# Altium footprint library eSurf_handle.PcbLib: 57 footprints (part 3 of 4)
Each footprint in its own frame and in the unit in brackets; x right, y up, seen from the top. Pads: shape width x height; smd on the part's side, far side on the other; paste and mask are expansions set on the pad; w line width, h text height; cw(c..) or ccw(c..) is an arc to the next point about the centre after c.
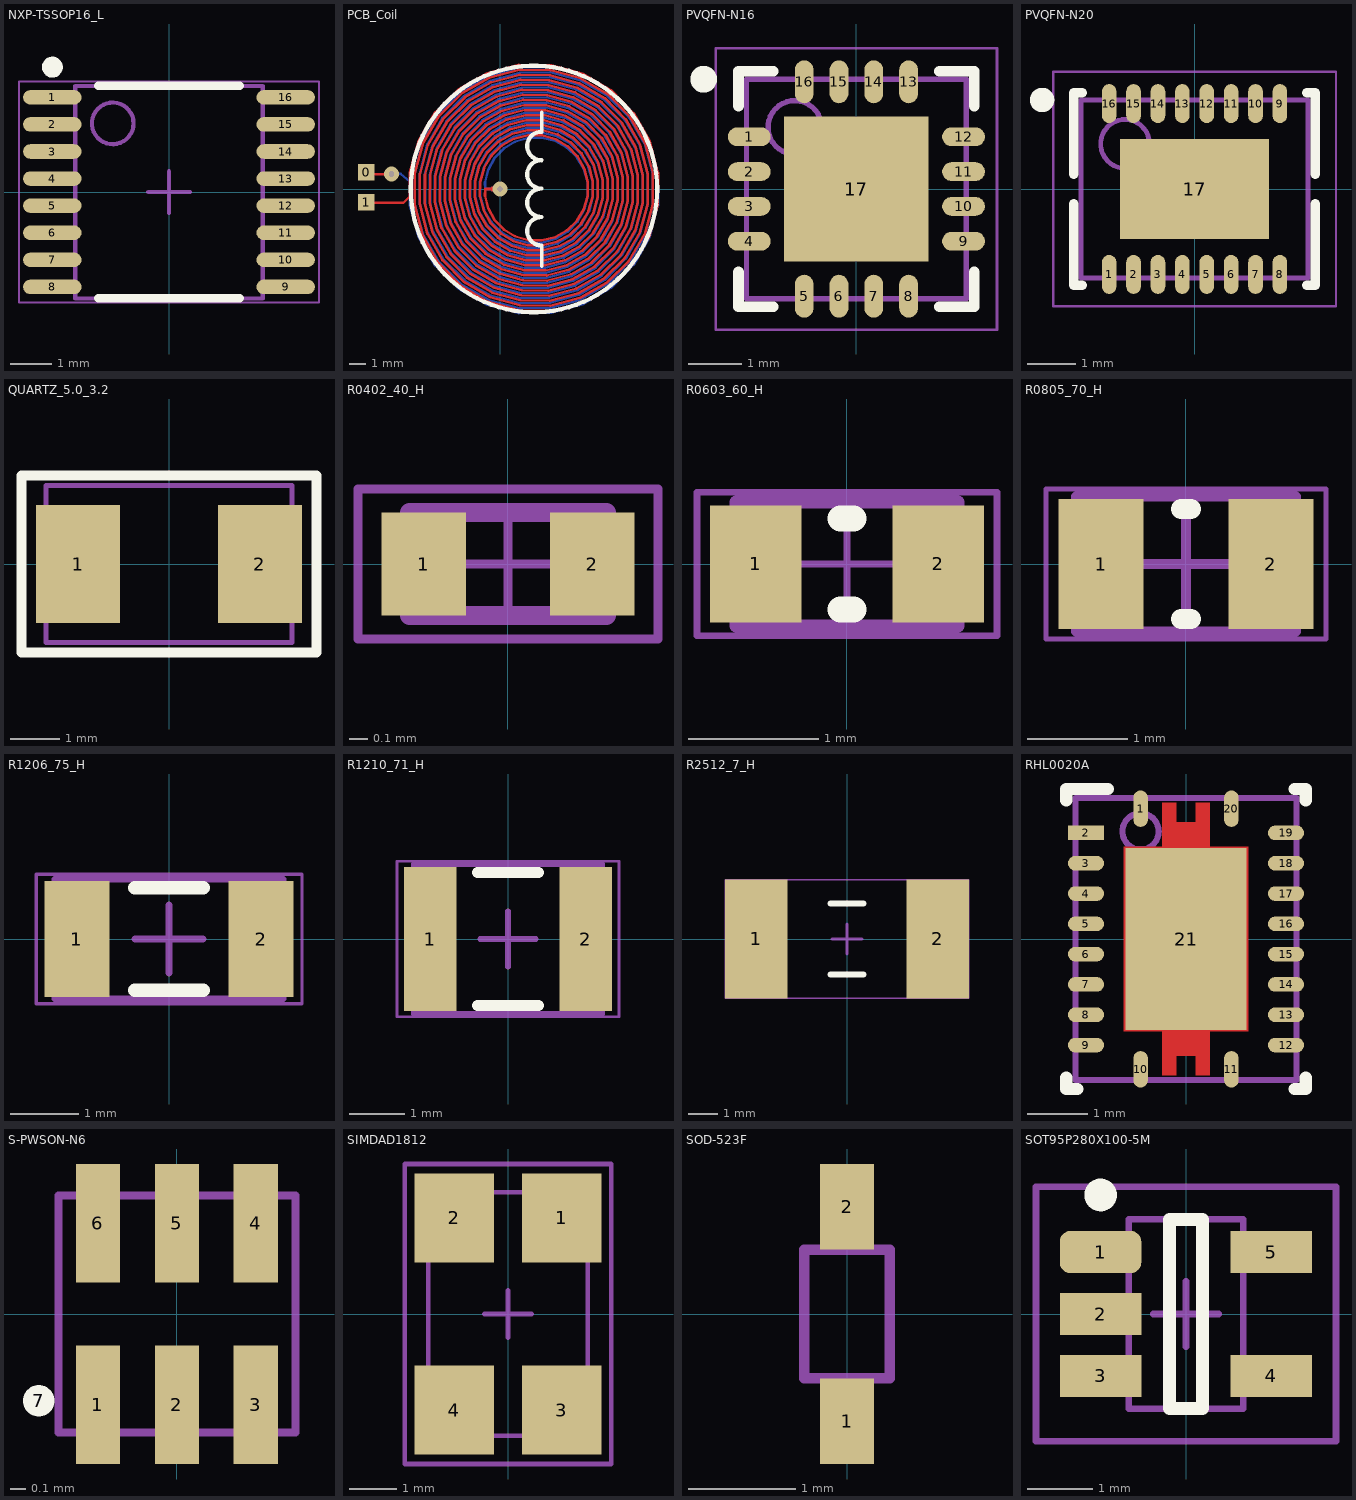
[diagram p2: the footprints below, top view; thin cyan lines are the x and y axes]

## NXP-TSSOP16_L [mm] "TSSOP, 16-Leads, Body 5.1x4.5mm, Pitch 0.65mm, Thermal Pad 2.997x2.997mm, IPC High Density"
height 1.2
pads (16):
  oval 1.4x0.35 smd: 1(-2.8,2.275) 2(-2.8,1.625) 3(-2.8,0.975) 4(-2.8,0.325) 5(-2.8,-0.325) 6(-2.8,-0.975) 7(-2.8,-1.625) 8(-2.8,-2.275) 9(2.8,-2.275) 10(2.8,-1.625) 11(2.8,-0.975) 12(2.8,-0.325) 13(2.8,0.325) 14(2.8,0.975) 15(2.8,1.625) 16(2.8,2.275)
Top Overlay:
  circle w0.25: c-2.8,3 r0.125
  lines w0.2: -1.7,-2.55 1.7,-2.55 ; -1.7,2.55 1.7,2.55
Mechanical 13:
  circle w0.1: c-1.35,1.65 r0.5
  lines w0.1: -2.25,-2.55 -2.25,2.55 2.25,2.55 2.25,-2.55 -2.25,-2.55
Mechanical 15:
  lines w0.05: -3.6,-2.65 -3.6,2.65 3.6,2.65 3.6,-2.65 -3.6,-2.65
  lines w0.1: -0.5,0 0.5,0 ; 0,-0.5 0,0.5
3D body: height 1.2, standoff 0, extent -2.2,-2.5 2.2,2.5

## PCB_Coil [mm]
pads (2):
  rect 1x1 smd mask+0.05: 0(-8,1) 1(-8,-0.8)
via -0.009,0.005 diameter 0.889 hole 0.305
via -6.486,0.894 diameter 0.889 hole 0.3
Top Layer:
  lines w0.15: -8,1 -7.894,0.894 -6.486,0.894 -6.591,1 ; -7.975,-0.825 -6.544,-0.825 -5.779,-0.825 -5.404,-0.45 -5.404,0 -5.392,0.986 -4.869,2.886 -3.875,4.584 -2.477,5.964 -0.773,6.933 1.121,7.428 3.075,7.415 4.956,6.898 6.636,5.914 8.002,4.53 8.962,2.843 9.451,0.968 9.439,-0.966 8.927,-2.828 7.952,-4.492 6.583,-5.844 4.913,-6.793 3.057,-7.278 1.142,-7.265 -0.701,-6.758 -2.347,-5.793 -3.685,-4.438 -4.625,-2.785 -5.104,-0.948 -5.091,0.947 -4.59,2.77 -3.635,4.399 -2.293,5.723 -0.657,6.653 1.16,7.127 3.035,7.115 4.84,6.618 6.452,5.673 7.762,4.346 8.682,2.727 9.151,0.928 9.139,-0.927 8.647,-2.712 7.712,-4.307 6.398,-5.603 4.797,-6.514 3.017,-6.977 1.182,-6.965 -0.585,-6.479 -2.162,-5.553 -3.445,-4.253 -4.345,-2.669 -4.804,-0.909 -4.791,0.907 -4.31,2.655 -3.395,4.215 -2.109,5.483 -0.541,6.374 1.2,6.827 2.996,6.815 4.724,6.339 6.268,5.433 7.522,4.161 8.402,2.611 8.851,0.889 8.838,-0.887 8.367,-2.597 7.472,-4.123 6.214,-5.363 4.681,-6.234 2.978,-6.677 1.221,-6.665 -0.469,-6.199 -1.978,-5.313 -3.204,-4.069 -4.065,-2.553 -4.503,-0.869 -4.491,0.868 -4.03,2.539 -3.154,4.031 -1.924,5.243 -0.426,6.094 1.239,6.527 2.956,6.515 4.608,6.059 6.083,5.193 7.282,3.977 8.123,2.495 8.551,0.849 8.538,-0.848 8.088,-2.481 7.232,-3.939 6.03,-5.123 4.565,-5.954 2.938,-6.377 1.261,-6.364 -0.353,-5.919 -1.794,-5.073 -2.964,-3.885 -3.785,-2.437 -4.203,-0.83 -4.191,0.828 -3.75,2.423 -2.914,3.846 -1.74,5.003 -0.31,5.814 1.279,6.227 2.917,6.214 4.492,5.779 5.899,4.953 7.041,3.793 7.843,2.379 8.25,0.81 8.238,-0.808 7.808,-2.365 6.991,-3.754 5.845,-4.883 4.449,-5.674 2.899,-6.077 1.3,-6.064 -0.237,-5.639 -1.609,-4.833 -2.724,-3.7 -3.506,-2.321 -3.903,-0.79 -3.89,0.788 -3.471,2.307 -2.674,3.662 -1.556,4.762 -0.194,5.534 1.318,5.927 2.877,5.914 4.377,5.499 5.715,4.712 6.801,3.608 7.563,2.263 7.95,0.77 7.938,-0.769 7.528,-2.249 6.751,-3.57 5.661,-4.642 4.333,-5.394 2.859,-5.776 1.34,-5.764 -0.121,-5.359 -1.425,-4.592 -2.484,-3.516 -3.226,-2.205 -3.603,-0.751 -3.59,0.749 -3.191,2.191 -2.434,3.478 -1.371,4.522 -0.078,5.255 1.358,5.626 2.838,5.614 4.261,5.22 5.53,4.472 6.561,3.424 7.283,2.148 7.65,0.731 7.637,-0.729 7.248,-2.133 6.511,-3.386 5.477,-4.402 4.217,-5.115 2.82,-5.476 1.379,-5.464 -0.005,-5.08 -1.241,-4.352 -2.243,-3.332 -2.946,-2.09 -3.303,-0.711 -3.29,0.709 -2.911,2.075 -2.193,3.293 -1.187,4.282 0.038,4.975 1.397,5.326 2.798,5.314 4.145,4.94 5.346,4.232 6.321,3.24 7.004,2.032 7.35,0.691 7.337,-0.69 6.969,-2.017 6.271,-3.201 5.292,-4.162 4.101,-4.835 2.78,-5.176 1.419,-5.163 0.11,-4.8 -1.056,-4.112 -2.003,-3.147 -2.666,-1.974 -3.002,-0.672 -2.99,0.67 -2.631,1.959 -1.953,3.109 -1.003,4.042 0.154,4.695 1.437,5.026 2.759,5.013 4.029,4.66 5.162,3.992 6.08,3.055 6.724,1.916 7.05,0.652 7.037,-0.65 6.689,-1.901 6.03,-3.017 5.108,-3.922 3.985,-4.555 2.741,-4.876 1.458,-4.863 0.226,-4.52 -0.872,-3.872 -1.763,-2.963 -2.387,-1.858 -2.702,-0.632 -2.69,0.63 -2.352,1.843 -1.713,2.925 -0.818,3.801 0.27,4.415 1.477,4.726 2.719,4.713 3.913,4.38 4.977,3.751 5.84,2.871 6.444,1.8 6.749,0.612 6.737,-0.611 6.409,-1.785 5.79,-2.832 4.923,-3.681 3.87,-4.275 2.701,-4.576 1.498,-4.563 0.342,-4.24 -0.688,-3.631 -1.523,-2.779 -2.107,-1.742 -2.402,-0.593 -2.389,0.591 -2.072,1.727 -1.473,2.74 -0.634,3.561 0.386,4.136 1.516,4.425 2.68,4.413 3.797,4.101 4.793,3.511 5.6,2.687 6.164,1.684 6.449,0.573 6.437,-0.571 6.129,-1.67 5.55,-2.648 4.739,-3.441 3.754,-3.996 2.662,-4.275 1.537,-4.263 0.458,-3.961 -0.503,-3.391 -1.282,-2.594 -1.827,-1.626 -2.102,-0.553 -2.089,0.551 -1.792,1.612 -1.232,2.556 -0.45,3.321 0.502,3.856 1.556,4.125 2.64,4.113 3.681,3.821 4.609,3.271 5.36,2.502 5.884,1.568 6.149,0.533 6.136,-0.532 5.849,-1.554 5.31,-2.464 4.555,-3.201 3.638,-3.716 2.622,-3.975 1.577,-3.963 0.574,-3.681 -0.319,-3.151 -1.042,-2.41 -1.547,-1.51 -1.801,-0.513 -1.789,0.512 -1.512,1.496 -0.992,2.372 -0.265,3.081 0.617,3.576 1.595,3.825 2.601,3.812 3.565,3.541 4.424,3.031 5.119,2.318 5.605,1.452 5.849,0.494 5.836,-0.492 5.57,-1.438 5.069,-2.279 4.37,-2.961 3.522,-3.436 2.582,-3.675 1.617,-3.662 0.69,-3.401 -0.135,-2.911 -0.802,-2.226 -1.267,-1.394 -1.501,-0.474 -1.489,0.472 -1.233,1.38 -0.752,2.187 -0.081,2.841 0.733,3.296 1.635,3.525 2.561,3.512 3.45,3.261 4.24,2.79 4.879,2.134 5.325,1.336 5.548,0.454 5.536,-0.453 5.29,-1.322 4.829,-2.095 4.186,-2.72 3.406,-3.156 2.543,-3.375 1.656,-3.362 0.806,-3.121 0.05,-2.67 -0.562,-2.041 -0.988,-1.278 -1.201,-0.434 -1.188,0.433 -0.953,1.264 -0.512,2.003 0.103,2.6 0.849,3.016 1.674,3.225 2.522,3.212 3.334,2.981 4.056,2.55 4.639,1.949 5.045,1.22 5.248,0.415 5.236,-0.413 5.01,-1.206 4.589,-1.911 4.002,-2.48 3.29,-2.877 2.503,-3.074 1.696,-3.062 0.922,-2.842 0.234,-2.43 -0.321,-1.857 -0.708,-1.163 -0.901,-0.395 -0.888,0 -0.444,0
  lines w0.3: -0.444,0 0,0
Bottom Layer:
  lines w0.15: -6.37,0.901 -5.945,0.901 -5.404,0.45 -5.404,0 -5.392,-0.986 -4.869,-2.886 -3.875,-4.584 -2.477,-5.964 -0.773,-6.933 1.121,-7.428 3.075,-7.415 4.956,-6.898 6.636,-5.914 8.002,-4.53 8.962,-2.843 9.451,-0.968 9.439,0.966 8.927,2.828 7.952,4.492 6.583,5.844 4.913,6.793 3.057,7.278 1.142,7.265 -0.701,6.758 -2.347,5.793 -3.685,4.438 -4.625,2.785 -5.104,0.948 -5.091,-0.947 -4.59,-2.77 -3.635,-4.399 -2.293,-5.723 -0.657,-6.653 1.16,-7.127 3.035,-7.115 4.84,-6.618 6.452,-5.673 7.762,-4.346 8.682,-2.727 9.151,-0.928 9.139,0.927 8.647,2.712 7.712,4.307 6.398,5.603 4.797,6.514 3.017,6.977 1.182,6.965 -0.585,6.479 -2.162,5.553 -3.445,4.253 -4.345,2.669 -4.804,0.909 -4.791,-0.907 -4.31,-2.655 -3.395,-4.215 -2.109,-5.483 -0.541,-6.374 1.2,-6.827 2.996,-6.815 4.724,-6.339 6.268,-5.433 7.522,-4.161 8.402,-2.611 8.851,-0.889 8.838,0.887 8.367,2.597 7.472,4.123 6.214,5.363 4.681,6.234 2.978,6.677 1.221,6.665 -0.469,6.199 -1.978,5.313 -3.204,4.069 -4.065,2.553 -4.503,0.869 -4.491,-0.868 -4.03,-2.539 -3.154,-4.031 -1.924,-5.243 -0.426,-6.094 1.239,-6.527 2.956,-6.515 4.608,-6.059 6.083,-5.193 7.282,-3.977 8.123,-2.495 8.551,-0.849 8.538,0.848 8.088,2.481 7.232,3.939 6.03,5.123 4.565,5.954 2.938,6.377 1.261,6.364 -0.353,5.919 -1.794,5.073 -2.964,3.885 -3.785,2.437 -4.203,0.83 -4.191,-0.828 -3.75,-2.423 -2.914,-3.846 -1.74,-5.003 -0.31,-5.814 1.279,-6.227 2.917,-6.214 4.492,-5.779 5.899,-4.953 7.041,-3.793 7.843,-2.379 8.25,-0.81 8.238,0.808 7.808,2.365 6.991,3.754 5.845,4.883 4.449,5.674 2.899,6.077 1.3,6.064 -0.237,5.639 -1.609,4.833 -2.724,3.7 -3.506,2.321 -3.903,0.79 -3.89,-0.788 -3.471,-2.307 -2.674,-3.662 -1.556,-4.762 -0.194,-5.534 1.318,-5.927 2.877,-5.914 4.377,-5.499 5.715,-4.712 6.801,-3.608 7.563,-2.263 7.95,-0.77 7.938,0.769 7.528,2.249 6.751,3.57 5.661,4.642 4.333,5.394 2.859,5.776 1.34,5.764 -0.121,5.359 -1.425,4.592 -2.484,3.516 -3.226,2.205 -3.603,0.751 -3.59,-0.749 -3.191,-2.191 -2.434,-3.478 -1.371,-4.522 -0.078,-5.255 1.358,-5.626 2.838,-5.614 4.261,-5.22 5.53,-4.472 6.561,-3.424 7.283,-2.148 7.65,-0.731 7.637,0.729 7.248,2.133 6.511,3.386 5.477,4.402 4.217,5.115 2.82,5.476 1.379,5.464 -0.005,5.08 -1.241,4.352 -2.243,3.332 -2.946,2.09 -3.303,0.711 -3.29,-0.709 -2.911,-2.075 -2.193,-3.293 -1.187,-4.282 0.038,-4.975 1.397,-5.326 2.798,-5.314 4.145,-4.94 5.346,-4.232 6.321,-3.24 7.004,-2.032 7.35,-0.691 7.337,0.69 6.969,2.017 6.271,3.201 5.292,4.162 4.101,4.835 2.78,5.176 1.419,5.163 0.11,4.8 -1.056,4.112 -2.003,3.147 -2.666,1.974 -3.002,0.672 -2.99,-0.67 -2.631,-1.959 -1.953,-3.109 -1.003,-4.042 0.154,-4.695 1.437,-5.026 2.759,-5.013 4.029,-4.66 5.162,-3.992 6.08,-3.055 6.724,-1.916 7.05,-0.652 7.037,0.65 6.689,1.901 6.03,3.017 5.108,3.922 3.985,4.555 2.741,4.876 1.458,4.863 0.226,4.52 -0.872,3.872 -1.763,2.963 -2.387,1.858 -2.702,0.632 -2.69,-0.63 -2.352,-1.843 -1.713,-2.925 -0.818,-3.801 0.27,-4.415 1.477,-4.726 2.719,-4.713 3.913,-4.38 4.977,-3.751 5.84,-2.871 6.444,-1.8 6.749,-0.612 6.737,0.611 6.409,1.785 5.79,2.832 4.923,3.681 3.87,4.275 2.701,4.576 1.498,4.563 0.342,4.24 -0.688,3.631 -1.523,2.779 -2.107,1.742 -2.402,0.593 -2.389,-0.591 -2.072,-1.727 -1.473,-2.74 -0.634,-3.561 0.386,-4.136 1.516,-4.425 2.68,-4.413 3.797,-4.101 4.793,-3.511 5.6,-2.687 6.164,-1.684 6.449,-0.573 6.437,0.571 6.129,1.67 5.55,2.648 4.739,3.441 3.754,3.996 2.662,4.275 1.537,4.263 0.458,3.961 -0.503,3.391 -1.282,2.594 -1.827,1.626 -2.102,0.553 -2.089,-0.551 -1.792,-1.612 -1.232,-2.556 -0.45,-3.321 0.502,-3.856 1.556,-4.125 2.64,-4.113 3.681,-3.821 4.609,-3.271 5.36,-2.502 5.884,-1.568 6.149,-0.533 6.136,0.532 5.849,1.554 5.31,2.464 4.555,3.201 3.638,3.716 2.622,3.975 1.577,3.963 0.574,3.681 -0.319,3.151 -1.042,2.41 -1.547,1.51 -1.801,0.513 -1.789,-0.512 -1.512,-1.496 -0.992,-2.372 -0.265,-3.081 0.617,-3.576 1.595,-3.825 2.601,-3.812 3.565,-3.541 4.424,-3.031 5.119,-2.318 5.605,-1.452 5.849,-0.494 5.836,0.492 5.57,1.438 5.069,2.279 4.37,2.961 3.522,3.436 2.582,3.675 1.617,3.662 0.69,3.401 -0.135,2.911 -0.802,2.226 -1.267,1.394 -1.501,0.474 -1.489,-0.472 -1.233,-1.38 -0.752,-2.187 -0.081,-2.841 0.733,-3.296 1.635,-3.525 2.561,-3.512 3.45,-3.261 4.24,-2.79 4.879,-2.134 5.325,-1.336 5.548,-0.454 5.536,0.453 5.29,1.322 4.829,2.095 4.186,2.72 3.406,3.156 2.543,3.375 1.656,3.362 0.806,3.121 0.05,2.67 -0.562,2.041 -0.988,1.278 -1.201,0.434 -1.188,-0.433 -0.953,-1.264 -0.512,-2.003 0.103,-2.6 0.849,-3.016 1.674,-3.225 2.522,-3.212 3.334,-2.981 4.056,-2.55 4.639,-1.949 5.045,-1.22 5.248,-0.415 5.236,0.413 5.01,1.206 4.589,1.911 4.002,2.48 3.29,2.877 2.503,3.074 1.696,3.062 0.922,2.842 0.234,2.43 -0.321,1.857 -0.708,1.163 -0.901,0.395 -0.888,0 -0.444,0
  lines w0.3: -0.444,0 0,0
Top Overlay:
  circle w0.254: c2.025,0 r7.375
  lines w0.2: 2.5,-4.625 2.5,-3.425 ; 2.5,3.4 2.5,4.6
  lines w0.254: 2.475,-3.375 cw(c2.475,-2.524) 2.475,-1.672 ; 2.475,-1.675 cw(c2.475,-0.824) 2.475,0.028 ; 2.475,0.025 cw(c2.475,0.876) 2.475,1.728 ; 2.475,1.725 cw(c2.475,2.576) 2.475,3.428
Bottom Overlay:
  circle w0.254: c2.025,0 r7.375
3D body: height 0.01, standoff 0, extent -5.5,-7.5 9.5,7.496

## PVQFN-N16 [mm] "QFN, 16-Leads, Body 4.00x4.00mm, Pitch 0.65mm, Thermal Pad 2.70x2.70mm, IPC Medium Density"
height 1
pads (17):
  oval 0.8x0.35 smd: 1(-2,0.975) 2(-2,0.325) 3(-2,-0.325) 4(-2,-0.975) 9(2,-0.975) 10(2,-0.325) 11(2,0.325) 12(2,0.975)
  oval 0.35x0.8 smd: 5(-0.975,-2) 6(-0.325,-2) 7(0.325,-2) 8(0.975,-2) 13(0.975,2) 14(0.325,2) 15(-0.325,2) 16(-0.975,2)
  rect 2.7x2.7 smd: 17(0,0)
Top Overlay:
  circle w0.25: c-2.85,2.05 r0.125
  lines w0.2: -2.2,-1.55 -2.2,-2.2 -1.55,-2.2 ; -2.2,1.55 -2.2,2.2 -1.55,2.2 ; 1.55,-2.2 2.2,-2.2 2.2,-1.55 ; 1.55,2.2 2.2,2.2 2.2,1.55
Mechanical 13:
  circle w0.1: c-1.15,1.15 r0.5
  lines w0.1: -2.05,-2.05 -2.05,2.05 2.05,2.05 2.05,-2.05 -2.05,-2.05
Mechanical 15:
  lines w0.05: -2.625,-2.625 -2.625,2.625 2.625,2.625 2.625,-2.625 -2.625,-2.625
  lines w0.1: -0.5,0 0.5,0 ; 0,-0.5 0,0.5
3D body: height 1, standoff 0.08, extent -2.05,-2.05 2.05,2.05

## PVQFN-N20 [mm] "QFN, 16-Leads, Body 4.50x3.50mm, Pitch 0.50mm, Thermal Pad 3.05x2.05mm, IPC Medium Density"
height 1
pads (17):
  oval 0.3x0.8 smd: 1(-1.75,-1.75) 2(-1.25,-1.75) 3(-0.75,-1.75) 4(-0.25,-1.75) 5(0.25,-1.75) 6(0.75,-1.75) 7(1.25,-1.75) 8(1.75,-1.75) 9(1.75,1.75) 10(1.25,1.75) 11(0.75,1.75) 12(0.25,1.75) 13(-0.25,1.75) 14(-0.75,1.75) 15(-1.25,1.75) 16(-1.75,1.75)
  rect 3.05x2.05 smd: 17(0,0)
Top Overlay:
  circle w0.25: c-3.125,1.825 r0.125
  lines w0.2: -2.475,-0.3 -2.475,-1.975 -2.3,-1.975 ; -2.475,0.3 -2.475,1.975 -2.3,1.975 ; 2.3,-1.975 2.475,-1.975 2.475,-0.3 ; 2.3,1.975 2.475,1.975 2.475,0.3
Mechanical 13:
  circle w0.1: c-1.425,0.925 r0.5
  lines w0.1: -2.325,-1.825 2.325,-1.825 2.325,1.825 -2.325,1.825 -2.325,-1.825
Mechanical 15:
  lines w0.05: -2.9,-2.4 2.9,-2.4 2.9,2.4 -2.9,2.4 -2.9,-2.4
  lines w0.1: -0.5,0 0.5,0 ; 0,-0.5 0,0.5
3D body: height 1, standoff 0.05, extent -2.325,-1.825 2.325,1.825

## QUARTZ_5.0_3.2 [mm]
pads (2):
  rect 1.7x2.4 smd: 1(-1.85,0) 2(1.85,0)
Top Overlay:
  lines w0.2: -3,-1.8 3,-1.8 3,1.8 -3,1.8 -3,-1.8
Mechanical 13:
  lines w0.1: -2.5,-1.6 2.5,-1.6 2.5,1.6 -2.5,1.6 -2.5,-1.6
3D body: height 1.2, standoff 0.1, extent -2.5,-1.6 2.5,1.6

## R0402_40_H [mm] "Chip Resistor, Body 1.0x0.5mm, IPC High Density"
height 0.4
pads (2):
  rect 0.45x0.55 smd: 1(-0.45,0) 2(0.45,0)
Mechanical 13:
  lines w0.1: -0.525,-0.275 0.525,-0.275 0.525,0.275 -0.525,0.275 -0.525,-0.275
Mechanical 15:
  lines w0.05: -0.275,0 0.275,0 ; 0,-0.275 0,0.275 ; -0.8,-0.4 0.8,-0.4 0.8,0.4 -0.8,0.4 -0.8,-0.4
3D body: height 0.4, standoff 0, extent 0.3,-0.275 0.525,0.275
3D body: height 0.4, standoff 0, extent -0.3,-0.275 0.3,0.275
3D body: height 0.4, standoff 0, extent -0.525,-0.275 -0.3,0.275

## R0603_60_H [mm] "Chip Resistor, Body 1.6x0.8mm, IPC High Density"
height 0.6
pads (2):
  rect 0.7x0.9 smd: 1(-0.7,0) 2(0.7,0)
Top Overlay:
  lines w0.2: -0.05,-0.35 0.05,-0.35 ; -0.05,0.35 0.05,0.35
Mechanical 13:
  lines w0.1: -0.85,-0.475 0.85,-0.475 0.85,0.475 -0.85,0.475 -0.85,-0.475
Mechanical 15:
  lines w0.05: -0.475,0 0.475,0 ; 0,-0.475 0,0.475 ; -1.15,-0.55 1.15,-0.55 1.15,0.55 -1.15,0.55 -1.15,-0.55
3D body: height 0.6, standoff 0, extent -0.849,-0.474 -0.58,0.475
3D body: height 0.6, standoff 0, extent -0.58,-0.474 0.581,0.475
3D body: height 0.6, standoff 0, extent 0.581,-0.474 0.85,0.475

## R0805_70_H [mm] "Chip Resistor, Body 2.0x1.3mm, IPC High Density"
height 0.7
pads (2):
  rect 0.85x1.3 smd: 1(-0.85,0) 2(0.85,0)
Top Overlay:
  lines w0.2: -0.05,-0.55 0.05,-0.55 ; -0.05,0.55 0.05,0.55
Mechanical 13:
  lines w0.1: -1.1,-0.675 -1.1,0.675 1.1,0.675 1.1,-0.675 -1.1,-0.675
Mechanical 15:
  lines w0.05: -1.4,-0.75 -1.4,0.75 1.4,0.75 1.4,-0.75 -1.4,-0.75
  lines w0.1: -0.5,0 0.5,0 ; 0,-0.5 0,0.5
3D body: height 0.7, standoff 0, extent -1.1,-0.675 -0.68,0.675
3D body: height 0.7, standoff 0, extent -0.68,-0.675 0.68,0.675
3D body: height 0.7, standoff 0, extent 0.68,-0.675 1.1,0.675

## R1206_75_H [mm] "Chip Resistor, Body 3.2x1.6mm, IPC High Density"
height 0.75
pads (2):
  rect 0.95x1.7 smd: 1(-1.35,0) 2(1.35,0)
Top Overlay:
  lines w0.2: -0.5,-0.75 0.5,-0.75 ; -0.5,0.75 0.5,0.75
Mechanical 13:
  lines w0.1: -1.675,-0.875 1.675,-0.875 1.675,0.875 -1.675,0.875 -1.675,-0.875
Mechanical 15:
  lines w0.05: -1.95,-0.95 1.95,-0.95 1.95,0.95 -1.95,0.95 -1.95,-0.95
  lines w0.1: -0.5,0 0.5,0 ; 0,-0.5 0,0.5
3D body: height 0.75, standoff 0, extent 1.181,-0.874 1.675,0.875
3D body: height 0.75, standoff 0, extent -1.18,-0.874 1.181,0.875
3D body: height 0.75, standoff 0, extent -1.674,-0.874 -1.18,0.875

## R1210_71_H [mm] "Chip Resistor, Body 3.2x2.5mm, IPC High Density"
height 0.71
pads (2):
  rect 0.95x2.6 smd: 1(-1.4,0) 2(1.4,0)
Top Overlay:
  lines w0.2: -0.55,-1.2 0.55,-1.2 ; -0.55,1.2 0.55,1.2
Mechanical 13:
  lines w0.1: -1.7,-1.35 -1.7,1.35 1.7,1.35 1.7,-1.35 -1.7,-1.35
Mechanical 15:
  lines w0.05: -2,-1.4 -2,1.4 2,1.4 2,-1.4 -2,-1.4
  lines w0.1: -0.5,0 0.5,0 ; 0,-0.5 0,0.5
3D body: height 0.71, standoff 0, extent 1.179,-1.351 1.698,1.349
3D body: height 0.71, standoff 0, extent -1.698,-1.349 -1.178,1.351
3D body: height 0.71, standoff 0, extent -1.182,-1.35 1.182,1.35

## R2512_7_H [mm] "Chip Resistor, Body 6.45x3.35mm, IPC High Density"
height 0.7
pads (2):
  rect 2.1x4 smd: 1(-3.05,0) 2(3.05,0)
Top Overlay:
  lines w0.2: -0.55,-1.2 0.55,-1.2 ; -0.55,1.2 0.55,1.2
Mechanical 15:
  lines w0.05: -4.1,-2 -4.1,2 4.1,2 4.1,-2 -4.1,-2
  lines w0.1: -0.5,0 0.5,0 ; 0,-0.5 0,0.5
3D body: height 0.7, standoff 0, extent -4.1,-2 4.1,2

## RHL0020A [mm]
pads (21):
  oval 0.24x0.6 smd: 1(-0.75,2.15) 10(-0.75,-2.15) 11(0.75,-2.15) 20(0.75,2.15)
  rect 0.6x0.24 smd: 2(-1.65,1.75)
  oval 0.6x0.24 smd: 3(-1.65,1.25) 4(-1.65,0.75) 5(-1.65,0.25) 6(-1.65,-0.25) 7(-1.65,-0.75) 8(-1.65,-1.25) 9(-1.65,-1.75) 12(1.65,-1.75) 13(1.65,-1.25) 14(1.65,-0.75) 15(1.65,-0.25) 16(1.65,0.25) 17(1.65,0.75) 18(1.65,1.25) 19(1.65,1.75)
  rect 2x3 smd: 21(0,0)
Top Layer:
  region: 0.39,2.25 0.16,2.25 0.16,1.925 -0.16,1.925 -0.16,2.25 -0.39,2.25 -0.39,1.525 -1.025,1.525 -1.025,-1.525 -0.39,-1.525 -0.39,-2.25 -0.16,-2.25 -0.16,-1.925 0.16,-1.925 0.16,-2.25 0.39,-2.25 0.39,-1.525 1.025,-1.525 1.025,1.525 0.39,1.525
Top Overlay:
  lines w0.2: -1.975,-2.29 -1.975,-2.475 -1.79,-2.475 ; -1.975,2.29 -1.975,2.475 -1.29,2.475 ; 1.79,-2.475 1.975,-2.475 1.975,-2.29 ; 1.79,2.475 1.975,2.475 1.975,2.29
Top Paste:
  region: 0,0 0,-1.328 0.917,-1.328 0.917,0
  region: 0,-1.328 0,0 -0.917,0 -0.917,-1.328
  region: 0,0 0,1.328 -0.917,1.328 -0.917,0
  region: 0,1.328 0,0 0.917,0 0.917,1.328
  region: -0.39,1.925 -0.39,1.628 0.39,1.628 0.39,1.925
  region: -0.39,-1.628 -0.39,-1.925 0.39,-1.925 0.39,-1.628
Mechanical 13:
  circle w0.1: c-0.75,1.775 r0.3
  lines w0.1: -1.825,-2.325 1.825,-2.325 1.825,2.325 -1.825,2.325 -1.825,-2.325
3D body: height 0.8, standoff 0, extent -1.8,-2.3 1.8,2.3

## S-PWSON-N6 [mm] "Plastic Small Outline No-Leads"
height 0.8
pads (7):
  rect 0.28x0.75 smd mask+0.05: 1(-0.5,-0.575) 2(0,-0.575) 3(0.5,-0.575) 4(0.5,0.575) 5(0,0.575) 6(-0.5,0.575)
  round 0.2 on Top Overlay mask+0.05: 7(-0.875,-0.55)
Mechanical 15:
  lines w0.05: -0.75,-0.75 0.75,-0.75 0.75,0.75 -0.75,0.75 -0.75,-0.75
3D body: height 0.8, standoff 0, extent -0.75,-0.75 0.75,0.75

## SIMDAD1812 [mm] "Inductance double pour ferrite bus CAN"
height 1.1
pads (4):
  rect 1.7x1.9 smd: 1(1.15,2.05) 2(-1.15,2.05) 3(1.15,-2.05) 4(-1.15,-2.05)
Mechanical 13:
  lines w0.1: -1.7,-2.6 -1.7,2.6 1.7,2.6 1.7,-2.6 -1.7,-2.6
Mechanical 15:
  lines w0.1: -0.5,0 0.5,0 ; 0,-0.5 0,0.5 ; -2.2,-3.2 -2.2,3.2 2.2,3.2 2.2,-3.2 -2.2,-3.2
3D body: height 3, standoff 0, extent -1.7,-2.6 1.7,2.6

## SOD-523F [mm]
pads (2):
  rect 0.5x0.8 smd: 1(0,-1) 2(0,1)
Mechanical 15:
  lines w0.1: -0.4,-0.6 0.4,-0.6 0.4,0.6 -0.4,0.6 -0.4,-0.6
3D body: height 0.7, standoff 0, extent -0.4,-0.6 0.4,0.6

## SOT95P280X100-5M [mm] "SOT23, 5-Leads, Body 2,9x2,8mm (max), Pitch 0,95mm, IPC Low Density"
height 1
pads (5):
  rrect50% 1.25x0.65 smd: 1(-1.31,0.95)
  rect 1.25x0.65 smd: 2(-1.31,0) 3(-1.31,-0.95) 4(1.31,-0.95) 5(1.31,0.95)
Top Overlay:
  circle w0.25: c-1.31,1.825 r0.125
  lines w0.2: -0.25,-1.45 -0.25,1.45 0.25,1.45 0.25,-1.45 -0.25,-1.45
Top Solder:
  rectangle: -2.05,-1.075 -0.575,0.975
Mechanical 13:
  lines w0.1: -0.875,-1.45 0.875,-1.45 0.875,1.45 -0.875,1.45 -0.875,-1.45
Mechanical 15:
  lines w0.1: -0.5,0 0.5,0 ; 0,-0.5 0,0.5 ; -2.3,-1.95 2.3,-1.95 2.3,1.95 -2.3,1.95 -2.3,-1.95
3D body: height 1, standoff 0.1, extent -0.875,-1.45 0.875,1.45